# Altium integrated library BLM18EG121SH1D.IntLib: 1 symbol
Pins are listed as number, name and electrical type; pins without a type are passive.

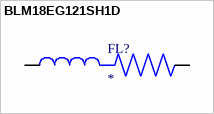
[diagram p0: symbol BLM18EG121SH1D]

## BLM18EG121SH1D
designator FL?
Ind Chip Bead 120Ohm 25% 100MHz 2A 0603 Paper T/R; MP: BLM18EG121SH1D; Package: None; Price: None; Value: *; Availability: Unavailable
footprint BEADC1608X95N
pins: 1, 2